# EAGLE library part XTR115 (library texas-extra)
IC Current Transmitter Source: www.ti.com/lit/ds/symlink/xtr115.pdf
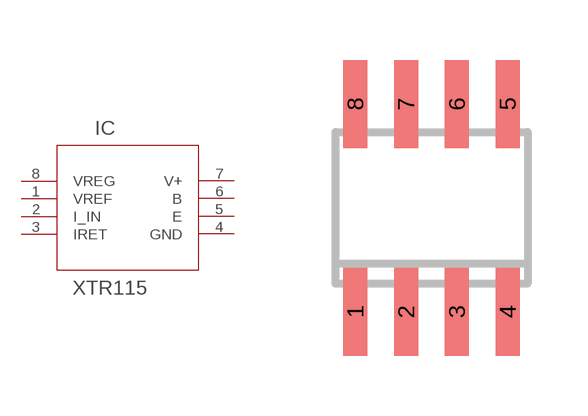
[diagram p2: symbol with the pads of SO-8; footprint SO-8]

Designator prefix IC

## XTR115  [SO-8]
1  VREF  out
2  I_IN  in
3  IRET
4  GND  pwr
5  E  pwr
6  B  pwr
7  V+  pwr
8  VREG  out

## Footprint SO-8 (pad centres in mm)
8-Lead Small Outline IC (SO-8) Source: http://www.analog.com/UploadedFiles/Data_Sheets/703465986AD8611_2_0.pdf
smd 0.6 x 2.2: 1 -1.905,-2.6; 2 -0.635,-2.6; 3 0.635,-2.6; 4 1.905,-2.6; 5 1.905,2.6; 6 0.635,2.6; 7 -0.635,2.6; 8 -1.905,2.6